# Altium footprint library DXPpcb.PCBLIB: 575 footprints (part 25 of 36)
Each footprint in its own frame and in the unit in brackets; x right, y up, seen from the top. Pads: shape width x height; smd on the part's side, far side on the other; paste and mask are expansions set on the pad; w line width, h text height; cw(c..) or ccw(c..) is an arc to the next point about the centre after c.
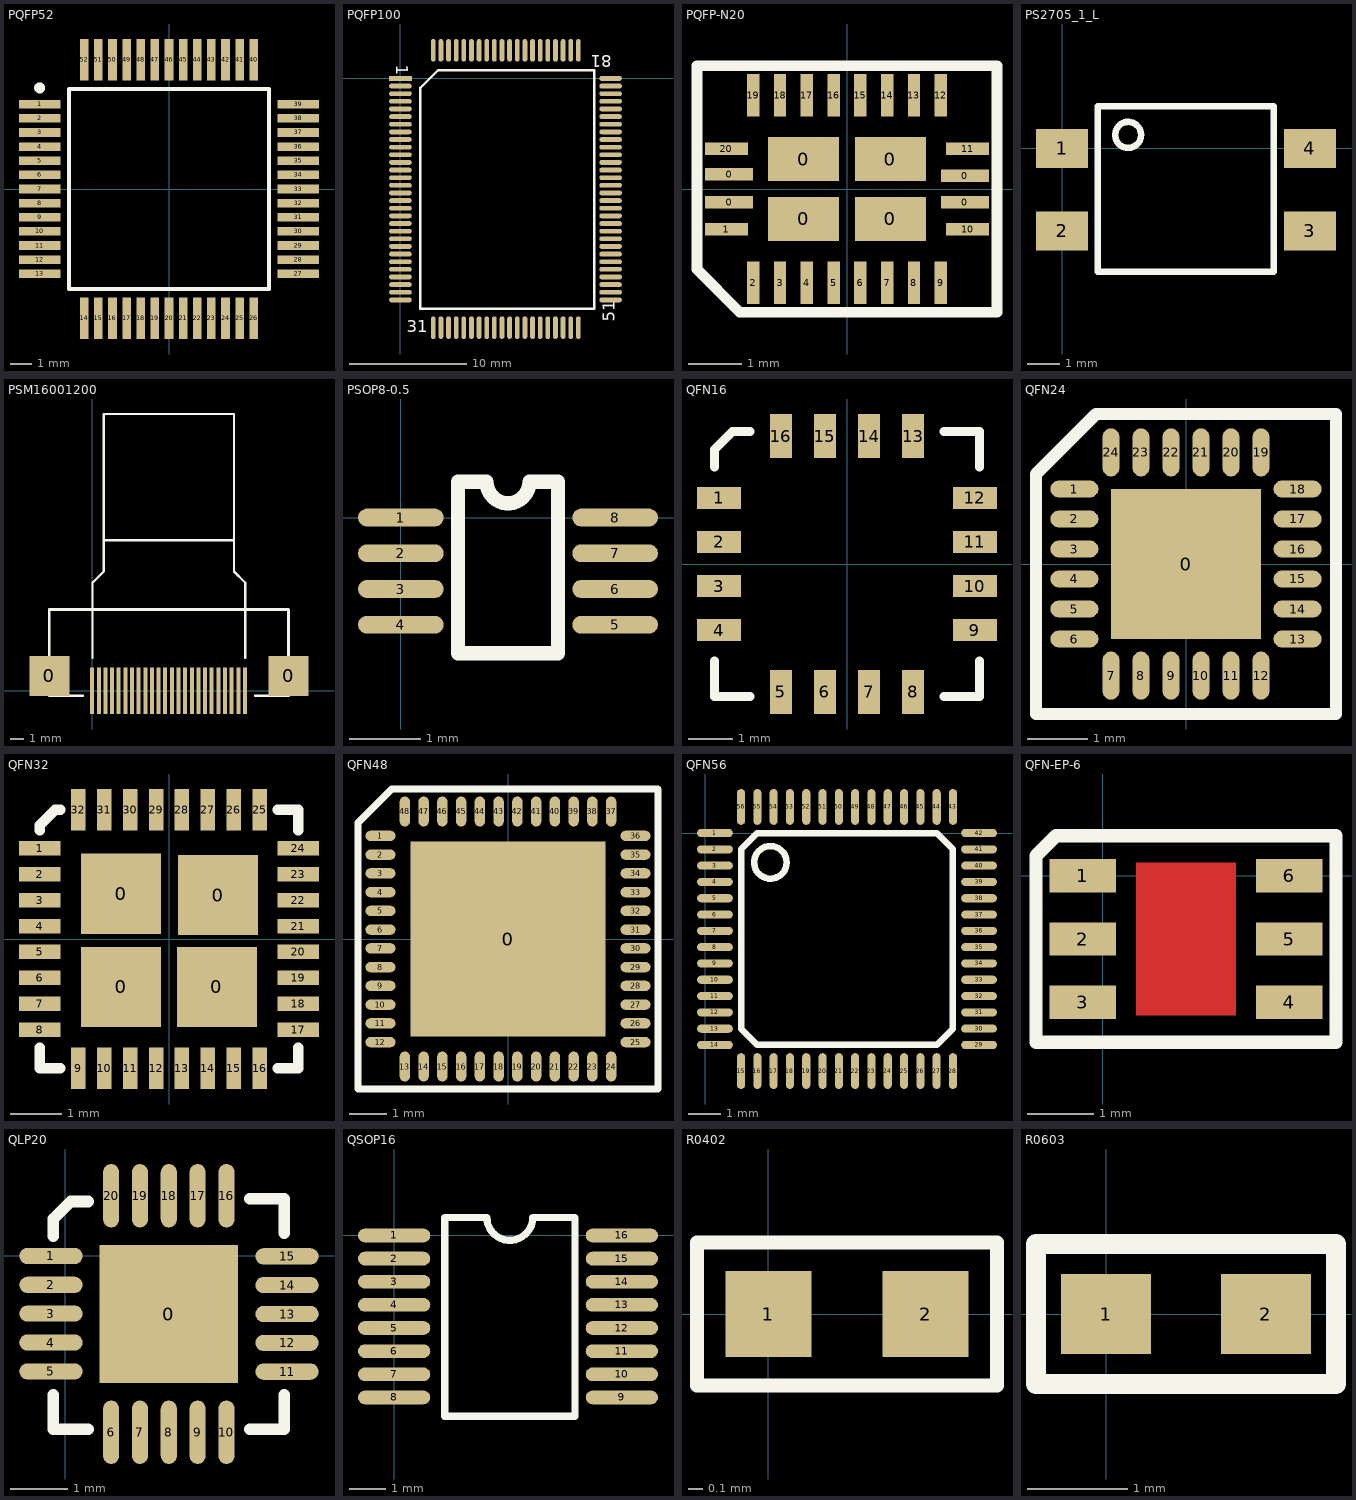
[diagram p24: the footprints below, top view; thin cyan lines are the x and y axes]

## PQFP52 [mm]
pads (52):
  rect 1.9x0.4 smd: 1(-5.95,3.9) 2(-5.95,3.25) 3(-5.95,2.6) 4(-5.95,1.95) 5(-5.95,1.3) 6(-5.95,0.65) 7(-5.95,0) 8(-5.95,-0.65) 9(-5.95,-1.3) 10(-5.95,-1.95) 11(-5.95,-2.6) 12(-5.95,-3.25) 13(-5.95,-3.9) 27(5.95,-3.9) 28(5.95,-3.25) 29(5.95,-2.6) 30(5.95,-1.95) 31(5.95,-1.3) 32(5.95,-0.65) 33(5.95,0) 34(5.95,0.65) 35(5.95,1.3) 36(5.95,1.95) 37(5.95,2.6) 38(5.95,3.25) 39(5.95,3.9)
  rect 0.4x1.9 smd: 14(-3.9,-5.95) 15(-3.25,-5.95) 16(-2.6,-5.95) 17(-1.95,-5.95) 18(-1.3,-5.95) 19(-0.65,-5.95) 20(0,-5.95) 21(0.65,-5.95) 22(1.3,-5.95) 23(1.95,-5.95) 24(2.6,-5.95) 25(3.25,-5.95) 26(3.9,-5.95) 40(3.9,5.95) 41(3.25,5.95) 42(2.6,5.95) 43(1.95,5.95) 44(1.3,5.95) 45(0.65,5.95) 46(0,5.95) 47(-0.65,5.95) 48(-1.3,5.95) 49(-1.95,5.95) 50(-2.6,5.95) 51(-3.25,5.95) 52(-3.9,5.95)
TopOverlay:
  circle w0.25: c-5.95,4.65 r0.125
  lines w0.2: -4.6,-4.6 4.6,-4.6 4.6,4.6 -4.6,4.6 -4.6,-4.6

## PQFP100 [mil]
pads (100):
  rect 75.87x16 smd: 1(0,0)
  oval 75.87x16 smd: 2(0,-25.59) 3(0,-51.18) 4(0,-76.77) 5(0,-102.36) 6(0,-127.95) 7(0,-153.54) 8(0,-179.13) 9(0,-204.72) 10(0,-230.31) 11(0,-255.91) 12(0,-281.5) 13(0,-307.09) 14(0,-332.68) 15(0,-358.27) 16(0,-383.86) 17(0,-409.45) 18(0,-435.04) 19(0,-460.63) 20(0,-486.22) 21(0,-511.81) 22(0,-537.4) 23(0,-562.99) 24(0,-588.58) 25(0,-614.17) 26(0,-639.76) 27(0,-665.36) 28(0,-690.95) 29(0,-716.54) 30(0,-742.13) 51(704.19,-742.13) 52(704.19,-716.54) 53(704.19,-690.95) 54(704.19,-665.36) 55(704.19,-639.76) 56(704.19,-614.17) 57(704.19,-588.58) 58(704.19,-562.99) 59(704.19,-537.4) 60(704.19,-511.81) 61(704.19,-486.22) 62(704.19,-460.63) 63(704.19,-435.04) 64(704.19,-409.45) 65(704.19,-383.86) 66(704.19,-358.27) 67(704.19,-332.68) 68(704.19,-307.09) 69(704.19,-281.5) 70(704.19,-255.91) 71(704.19,-230.31) 72(704.19,-204.72) 73(704.19,-179.13) 74(704.19,-153.54) 75(704.19,-127.95) 76(704.19,-102.36) 77(704.19,-76.77) 78(704.19,-51.18) 79(704.19,-25.59) 80(704.19,0)
  oval 16x75.87 smd: 31(109.98,-835.27) 32(135.57,-835.27) 33(161.16,-835.27) 34(186.76,-835.27) 35(212.35,-835.27) 36(237.94,-835.27) 37(263.53,-835.27) 38(289.12,-835.27) 39(314.71,-835.27) 40(340.3,-835.27) 41(365.89,-835.27) 42(391.48,-835.27) 43(417.07,-835.27) 44(442.66,-835.27) 45(468.25,-835.27) 46(493.84,-835.27) 47(519.43,-835.27) 48(545.02,-835.27) 49(570.62,-835.27) 50(596.21,-835.27) 81(596.21,94.14) 82(570.62,94.14) 83(545.02,94.14) 84(519.43,94.14) 85(493.84,94.14) 86(468.25,94.14) 87(442.66,94.14) 88(417.07,94.14) 89(391.48,94.14) 90(365.89,94.14) 91(340.3,94.14) 92(314.71,94.14) 93(289.12,94.14) 94(263.53,94.14) 95(237.94,94.14) 96(212.35,94.14) 97(186.76,94.14) 98(161.16,94.14) 99(135.58,94.14) 100(109.98,94.14)
TopOverlay:
  lines w7.87: 66.93,-771.65 66.93,-31.5 125.98,27.56 649.61,27.56 649.61,-771.65 66.93,-771.65
  text "31" at 20.94,-851.34 h40
  text "81" at 707.36,77.76 h40
  text "51" at 718.84,-815.91 h40
  text "1" at -13.45,46.29 h40

## PQFP-N20 [mm]
pads (28):
  rect 0.9x0.23 smd: 0(-2.2,-0.25) 0(-2.2,0.275) 0(2.2,-0.25) 0(2.2,0.25)
  rect 1.32x0.82 smd: 0(-0.81,-0.56) 0(-0.81,0.56) 0(0.81,-0.56) 0(0.81,0.56)
  rect 0.8x0.23 smd: 1(-2.25,-0.75) 10(2.25,-0.75) 11(2.25,0.75) 20(-2.25,0.75)
  rect 0.23x0.8 smd: 2(-1.75,-1.75) 3(-1.25,-1.75) 4(-0.75,-1.75) 5(-0.25,-1.75) 6(0.25,-1.75) 7(0.75,-1.75) 8(1.25,-1.75) 9(1.75,-1.75) 12(1.75,1.75) 13(1.25,1.75) 14(0.75,1.75) 15(0.25,1.75) 16(-0.25,1.75) 17(-0.75,1.75) 18(-1.25,1.75) 19(-1.75,1.75)
TopOverlay:
  lines w0.2: -2.8,-1.5 -2.8,2.3 2.8,2.3 2.8,-2.3 -2,-2.3 -2.8,-1.5

## PS2705_1_L [mm]
pads (4):
  rect 1.6x1.2 smd: 1(0,0) 2(0,-2.54) 3(7.62,-2.54) 4(7.62,0)
TopOverlay:
  circle w0.2: c2.032,0.412 r0.4
  lines w0.2: 1.1,-3.8 6.5,-3.8 6.5,1.3 1.1,1.3 1.1,-3.8

## PSM16001200 [mm]
pads (26):
  rect 3x3 smd: 0(-3.215,1.113) 0(14.785,1.113)
  rect 0.3x3.5 smd: 1(0,0) 2(0.5,0) 3(1,0) 4(1.5,0) 5(2,0) 6(2.5,0) 7(3,0) 8(3.5,0) 9(4,0) 10(4.5,0) 11(5,0) 12(5.5,0) 13(6,0) 14(6.5,0) 15(7,0) 16(7.5,0) 17(8,0) 18(8.5,0) 19(9,0) 20(9.5,0) 21(10,0) 22(10.5,0) 23(11,0) 24(11.5,0)
TopOverlay:
  lines w0.178: 0.027,2.483 0.027,8.133 0.877,8.983 0.877,20.833 10.677,20.833 10.677,8.983 11.527,8.133 11.527,2.483 ; 0.877,11.333 10.677,11.333
  lines w0.203: -0.731,-0.387 -3.231,-0.387 -3.231,6.113 -2.215,6.113 14.785,6.113 14.785,-0.387 12.285,-0.387

## PSOP8-0.5 [mm]
pads (8):
  oval 1.2x0.25 smd: 1(0,0) 2(0,-0.5) 3(0,-1) 4(0,-1.5) 5(3,-1.5) 6(3,-1) 7(3,-0.5) 8(3,0)
TopOverlay:
  lines w0.2: 0.8,-1.9 0.8,0.5 1.2,0.5 ccw(c1.5,0.5) 1.8,0.5 2.2,0.5 2.2,-1.9 0.8,-1.9

## QFN16 [mm]
pads (16):
  rect 1x0.5 smd: 1(-2.9,1.5) 2(-2.9,0.5) 3(-2.9,-0.5) 4(-2.9,-1.5) 9(2.9,-1.5) 10(2.9,-0.5) 11(2.9,0.5) 12(2.9,1.5)
  rect 0.5x1 smd: 5(-1.5,-2.9) 6(-0.5,-2.9) 7(0.5,-2.9) 8(1.5,-2.9) 13(1.5,2.9) 14(0.5,2.9) 15(-0.5,2.9) 16(-1.5,2.9)
TopOverlay:
  lines w0.2: -3,-2.2 -3,-3 -2.2,-3 ; -3,2.2 -3,2.6 -2.6,3 -2.2,3 ; 2.2,-3 3,-3 3,-2.2 ; 2.2,3 3,3 3,2.2

## QFN24 [mm]
pads (25):
  rect 2.5x2.5 smd: 0(0,0)
  oval 0.8x0.28 smd: 1(-1.86,1.25) 2(-1.86,0.75) 3(-1.86,0.25) 4(-1.86,-0.25) 5(-1.86,-0.75) 6(-1.86,-1.25) 13(1.86,-1.25) 14(1.86,-0.75) 15(1.86,-0.25) 16(1.86,0.25) 17(1.86,0.75) 18(1.86,1.25)
  oval 0.28x0.8 smd: 7(-1.25,-1.86) 8(-0.75,-1.86) 9(-0.25,-1.86) 10(0.25,-1.86) 11(0.75,-1.86) 12(1.25,-1.86) 19(1.25,1.86) 20(0.75,1.86) 21(0.25,1.86) 22(-0.25,1.86) 23(-0.75,1.86) 24(-1.25,1.86)
TopOverlay:
  lines w0.2: -2.5,-2.5 2.5,-2.5 2.5,2.5 -1.5,2.5 -2.5,1.5 -2.5,-2.5

## QFN32 [mm]
pads (36):
  rect 1.55x1.55 smd: 0(-0.925,-0.925) 0(-0.925,0.875) 0(0.925,-0.925) 0(0.95,0.85)
  rect 0.8x0.28 smd: 1(-2.5,1.75) 2(-2.5,1.25) 3(-2.5,0.75) 4(-2.5,0.25) 5(-2.5,-0.25) 6(-2.5,-0.75) 7(-2.5,-1.25) 8(-2.5,-1.75) 17(2.5,-1.75) 18(2.5,-1.25) 19(2.5,-0.75) 20(2.5,-0.25) 21(2.5,0.25) 22(2.5,0.75) 23(2.5,1.25) 24(2.5,1.75)
  rect 0.28x0.8 smd: 9(-1.75,-2.5) 10(-1.25,-2.5) 11(-0.75,-2.5) 12(-0.25,-2.5) 13(0.25,-2.5) 14(0.75,-2.5) 15(1.25,-2.5) 16(1.75,-2.5) 25(1.75,2.5) 26(1.25,2.5) 27(0.75,2.5) 28(0.25,2.5) 29(-0.25,2.5) 30(-0.75,2.5) 31(-1.25,2.5) 32(-1.75,2.5)
TopOverlay:
  lines w0.2: -2.5,-2.1 -2.5,-2.5 -2.1,-2.5 ; -2.5,2.1 -2.5,2.2 -2.2,2.5 -2.1,2.5 ; 2.1,-2.5 2.5,-2.5 2.5,-2.1 ; 2.1,2.5 2.5,2.5 2.5,2.1

## QFN48 [mm]
pads (49):
  rect 5.2x5.2 smd: 0(0,0)
  oval 0.8x0.28 smd: 1(-3.4,2.75) 2(-3.4,2.25) 3(-3.4,1.75) 4(-3.4,1.25) 5(-3.4,0.75) 6(-3.4,0.25) 7(-3.4,-0.25) 8(-3.4,-0.75) 9(-3.4,-1.25) 10(-3.4,-1.75) 11(-3.4,-2.25) 12(-3.4,-2.75) 25(3.4,-2.75) 26(3.4,-2.25) 27(3.4,-1.75) 28(3.4,-1.25) 29(3.4,-0.75) 30(3.4,-0.25) 31(3.4,0.25) 32(3.4,0.75) 33(3.4,1.25) 34(3.4,1.75) 35(3.4,2.25) 36(3.4,2.75)
  oval 0.28x0.8 smd: 13(-2.75,-3.4) 14(-2.25,-3.4) 15(-1.75,-3.4) 16(-1.25,-3.4) 17(-0.75,-3.4) 18(-0.25,-3.4) 19(0.25,-3.4) 20(0.75,-3.4) 21(1.25,-3.4) 22(1.75,-3.4) 23(2.25,-3.4) 24(2.75,-3.4) 37(2.75,3.4) 38(2.25,3.4) 39(1.75,3.4) 40(1.25,3.4) 41(0.75,3.4) 42(0.25,3.4) 43(-0.25,3.4) 44(-0.75,3.4) 45(-1.25,3.4) 46(-1.75,3.4) 47(-2.25,3.4) 48(-2.75,3.4)
TopOverlay:
  lines w0.2: -4,-4 4,-4 4,4 -3.1,4 -4,3.1 -4,-4

## QFN56 [mm]
pads (56):
  oval 1.1x0.25 smd: 1(0.3,0) 2(0.3,-0.5) 3(0.3,-1) 4(0.3,-1.5) 5(0.3,-2) 6(0.3,-2.5) 7(0.3,-3) 8(0.3,-3.5) 9(0.3,-4) 10(0.3,-4.5) 11(0.3,-5) 12(0.3,-5.5) 13(0.3,-6) 14(0.3,-6.5) 29(8.4,-6.5) 30(8.4,-6) 31(8.4,-5.5) 32(8.4,-5) 33(8.4,-4.5) 34(8.4,-4) 35(8.4,-3.5) 36(8.4,-3) 37(8.4,-2.5) 38(8.4,-2) 39(8.4,-1.5) 40(8.4,-1) 41(8.4,-0.5) 42(8.4,0)
  oval 0.25x1.1 smd: 15(1.1,-7.3) 16(1.6,-7.3) 17(2.1,-7.3) 18(2.6,-7.3) 19(3.1,-7.3) 20(3.6,-7.3) 21(4.1,-7.3) 22(4.6,-7.3) 23(5.1,-7.3) 24(5.6,-7.3) 25(6.1,-7.3) 26(6.6,-7.3) 27(7.1,-7.3) 28(7.6,-7.3) 43(7.6,0.8) 44(7.1,0.8) 45(6.6,0.8) 46(6.1,0.8) 47(5.6,0.8) 48(5.1,0.8) 49(4.6,0.8) 50(4.1,0.8) 51(3.6,0.8) 52(3.1,0.8) 53(2.6,0.8) 54(2.1,0.8) 55(1.6,0.8) 56(1.1,0.8)
TopOverlay:
  circle w0.2: c2,-0.9 r0.5
  lines w0.2: 1.1,-6 1.6,-6.5 7.1,-6.5 7.6,-6 7.6,-0.5 7.1,0 1.6,0 1.1,-0.5 1.1,-6

## QFN-EP-6 [mm]
pads (6):
  rect 1x0.5 smd: 1(-0.3,0) 2(-0.3,-0.95) 3(-0.3,-1.9) 4(2.8,-1.9) 5(2.8,-0.95) 6(2.8,0)
TopLayer:
  rectangle: 0.5,-2.1 2,0.2
TopOverlay:
  lines w0.2: -1,-2.5 -1,0.3 -0.7,0.6 3.5,0.6 3.5,-2.5 -1,-2.5

## QLP20 [mm]
pads (21):
  rect 2.4x2.4 smd: 0(1.793,-1.006)
  oval 1.1x0.28 smd: 1(-0.25,0) 2(-0.25,-0.5) 3(-0.25,-1) 4(-0.25,-1.5) 5(-0.25,-2) 11(3.843,-2.006) 12(3.843,-1.506) 13(3.843,-1.006) 14(3.843,-0.506) 15(3.843,-0.006)
  oval 0.28x1.1 smd: 6(0.793,-3.056) 7(1.293,-3.056) 8(1.793,-3.056) 9(2.293,-3.056) 10(2.793,-3.056) 16(2.793,1.044) 17(2.293,1.044) 18(1.793,1.044) 19(1.293,1.044) 20(0.793,1.044)
TopOverlay:
  lines w0.2: -0.207,-2.406 -0.207,-3.006 0.393,-3.006 ; -0.207,0.344 -0.207,0.644 0.093,0.944 0.393,0.944 ; 3.193,-3.006 3.793,-3.006 3.793,-2.406 ; 3.193,0.994 3.793,0.994 3.793,0.394

## QSOP16 [mm]
pads (16):
  oval 2x0.38 smd: 1(0,0) 2(0,-0.64) 3(0,-1.28) 4(0,-1.92) 5(0,-2.56) 6(0,-3.2) 7(0,-3.84) 8(0,-4.48) 9(6.3,-4.48) 10(6.3,-3.84) 11(6.3,-3.2) 12(6.3,-2.56) 13(6.3,-1.92) 14(6.3,-1.28) 15(6.3,-0.64) 16(6.3,0)
TopOverlay:
  lines w0.2: 3.835,0.5 cw(c3.2,0.5) 2.565,0.5 1.4,0.5 1.4,-5 5,-5 5,0.5 3.9,0.5

## R0402 [mm]
pads (2):
  rect 0.6x0.6 smd: 1(0,0) 2(1.1,0)
TopOverlay:
  lines w0.1: -0.5,-0.5 1.6,-0.5 1.6,0.5 -0.5,0.5 -0.5,-0.5

## R0603 [mm]
pads (2):
  rect 0.9x0.8 smd: 1(0,0) 2(1.6,0)
TopOverlay:
  lines w0.2: -0.7,-0.7 2.3,-0.7 2.3,0.7 -0.7,0.7 -0.7,-0.7